# Altium schematic symbol library CAN_TCAN1057A-Q1.Schlib: 1 symbol
Pins are listed as number, name and electrical type; pins without a type are passive.

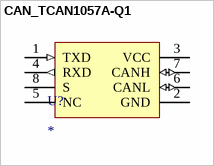
[diagram p0: symbol CAN_TCAN1057A-Q1]

## CAN_TCAN1057A-Q1
designator U?
CAN transceiver with silent
pins: 1 TXD (in), 2 GND, 3 VCC, 4 RXD (out), 5 NC, 6 CANL (io), 7 CANH (io), 8 S